# EAGLE library part ESP32-WROOM-32E (library CMWC-Product)
Espressif ESP32 Based RF Microcontroller
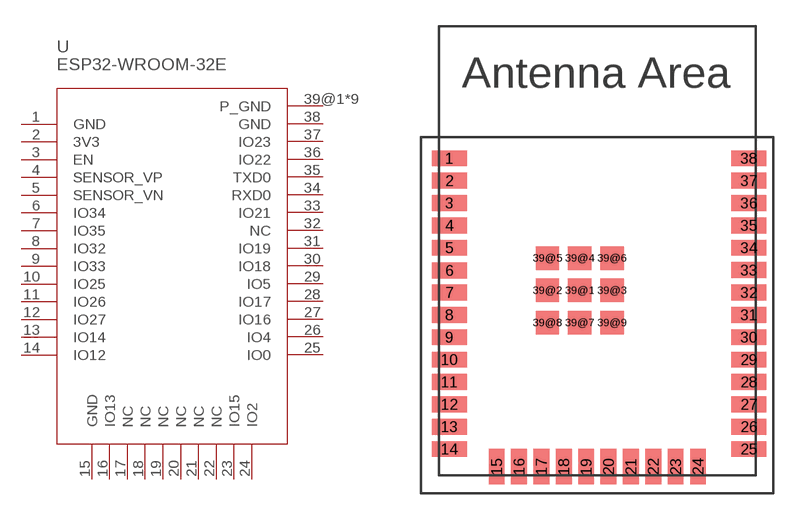
[diagram p1: symbol with the pads of ESP32-WROOM-32E; footprint ESP32-WROOM-32E]

Designator prefix U

## ESP32-WROOM-32E (DIGI-KEY_PART_NUMBER: 1965-ESP32-WROOM-32E(4MB)CT-ND; VALUE: ESP32-WROOM-32E)  [ESP32-WROOM-32E]
1  GND  pwr
2  3V3  pwr
3  EN  in
4  SENSOR_VP  in
5  SENSOR_VN  in
6  IO34  in
7  IO35  in
8  IO32
9  IO33
10  IO25
11  IO26
12  IO27
13  IO14
14  IO12
15  GND  pwr
16  IO13
17  NC  nc
18  NC  nc
19  NC  nc
20  NC  nc
21  NC  nc
22  NC  nc
23  IO15
24  IO2
25  IO0
26  IO4
27  IO16
28  IO17
29  IO5
30  IO18
31  IO19
32  NC  nc
33  IO21
34  RXD0
35  TXD0
36  IO22
37  IO23
38  GND  pwr
39@1  P_GND  pwr
39@2  P_GND  pwr
39@3  P_GND  pwr
39@4  P_GND  pwr
39@5  P_GND  pwr
39@6  P_GND  pwr
39@7  P_GND  pwr
39@8  P_GND  pwr
39@9  P_GND  pwr

## Footprint ESP32-WROOM-32E (pad centres in mm)
smd 2 x 0.9: 1 0.6,18.01; 2 0.6,16.74; 3 0.6,15.47; 4 0.6,14.2; 5 0.6,12.93; 6 0.6,11.64; 7 0.6,10.39; 8 0.6,9.12; 9 0.6,7.85; 10 0.6,6.58; 11 0.6,5.31; 12 0.6,4.04; 13 0.6,2.77; 14 0.6,1.5; 25 17.6,1.5; 26 17.6,2.77; 27 17.6,4.04; 28 17.6,5.31; 29 17.6,6.58; 30 17.6,7.85; 31 17.6,9.12; 32 17.6,10.39; 33 17.6,11.66; 34 17.6,12.93; 35 17.6,14.2; 36 17.6,15.47; 37 17.6,16.74; 38 17.6,18.01
smd 0.9 x 2: 15 3.285,0.5; 16 4.555,0.5; 17 5.825,0.5; 18 7.095,0.5; 19 8.365,0.5; 20 9.635,0.5; 21 10.905,0.5; 22 12.175,0.5; 23 13.445,0.5; 24 14.715,0.5
smd 1.33 x 1.33: 39@1 8,10.51; 39@2 6.165,10.51; 39@3 9.835,10.51; 39@4 8,12.345; 39@5 6.165,12.345; 39@6 9.835,12.345; 39@7 8,8.675; 39@8 6.165,8.675; 39@9 9.835,8.675